# EAGLE library part G6Z-1F-A (library NewSDR)
OMRON G6Z-1F-A
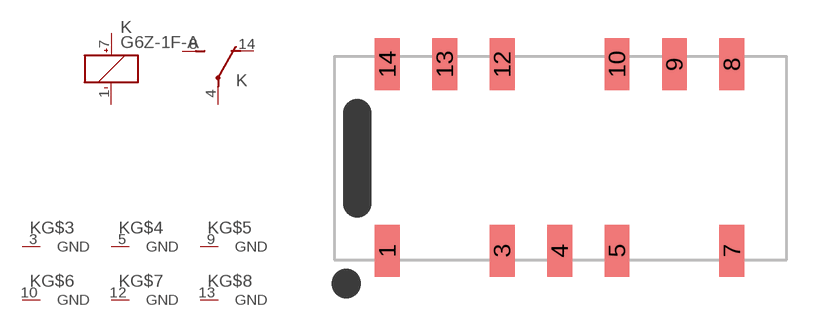
[diagram p132: symbol with the pads of G6Z-1F-A; footprint G6Z-1F-A]

Designator prefix K; gates G$1=K+- G$2=U G$3=GND-1 G$4=GND-1 G$5=GND-1 G$6=GND-1 G$7=GND-1 G$8=GND-1

## G6Z-1F-A  [G6Z-1F-A]
1  G$1:-  pas
3  G$3:GND  pwr
4  G$2:P  pas
5  G$4:GND  pwr
7  G$1:+  pas
8  G$2:S  pas
9  G$5:GND  pwr
10  G$6:GND  pwr
12  G$7:GND  pwr
13  G$8:GND  pwr
14  G$2:O  pas

## Footprint G6Z-1F-A (pad centres in mm)
OMRON G6Z-1F-A
smd 1.1 x 2.3: 1 -7.66,-4.1; 3 -2.58,-4.1; 4 -0.04,-4.1; 5 2.5,-4.1; 7 7.58,-4.1; 8 7.58,4.16; 9 5.04,4.16; 10 2.5,4.16; 12 -2.58,4.16; 13 -5.12,4.16; 14 -7.66,4.16